# Altium schematic symbol library Integrated Circuits.SchLib: 13 symbols
Pins are listed as number, name and electrical type; pins without a type are passive.

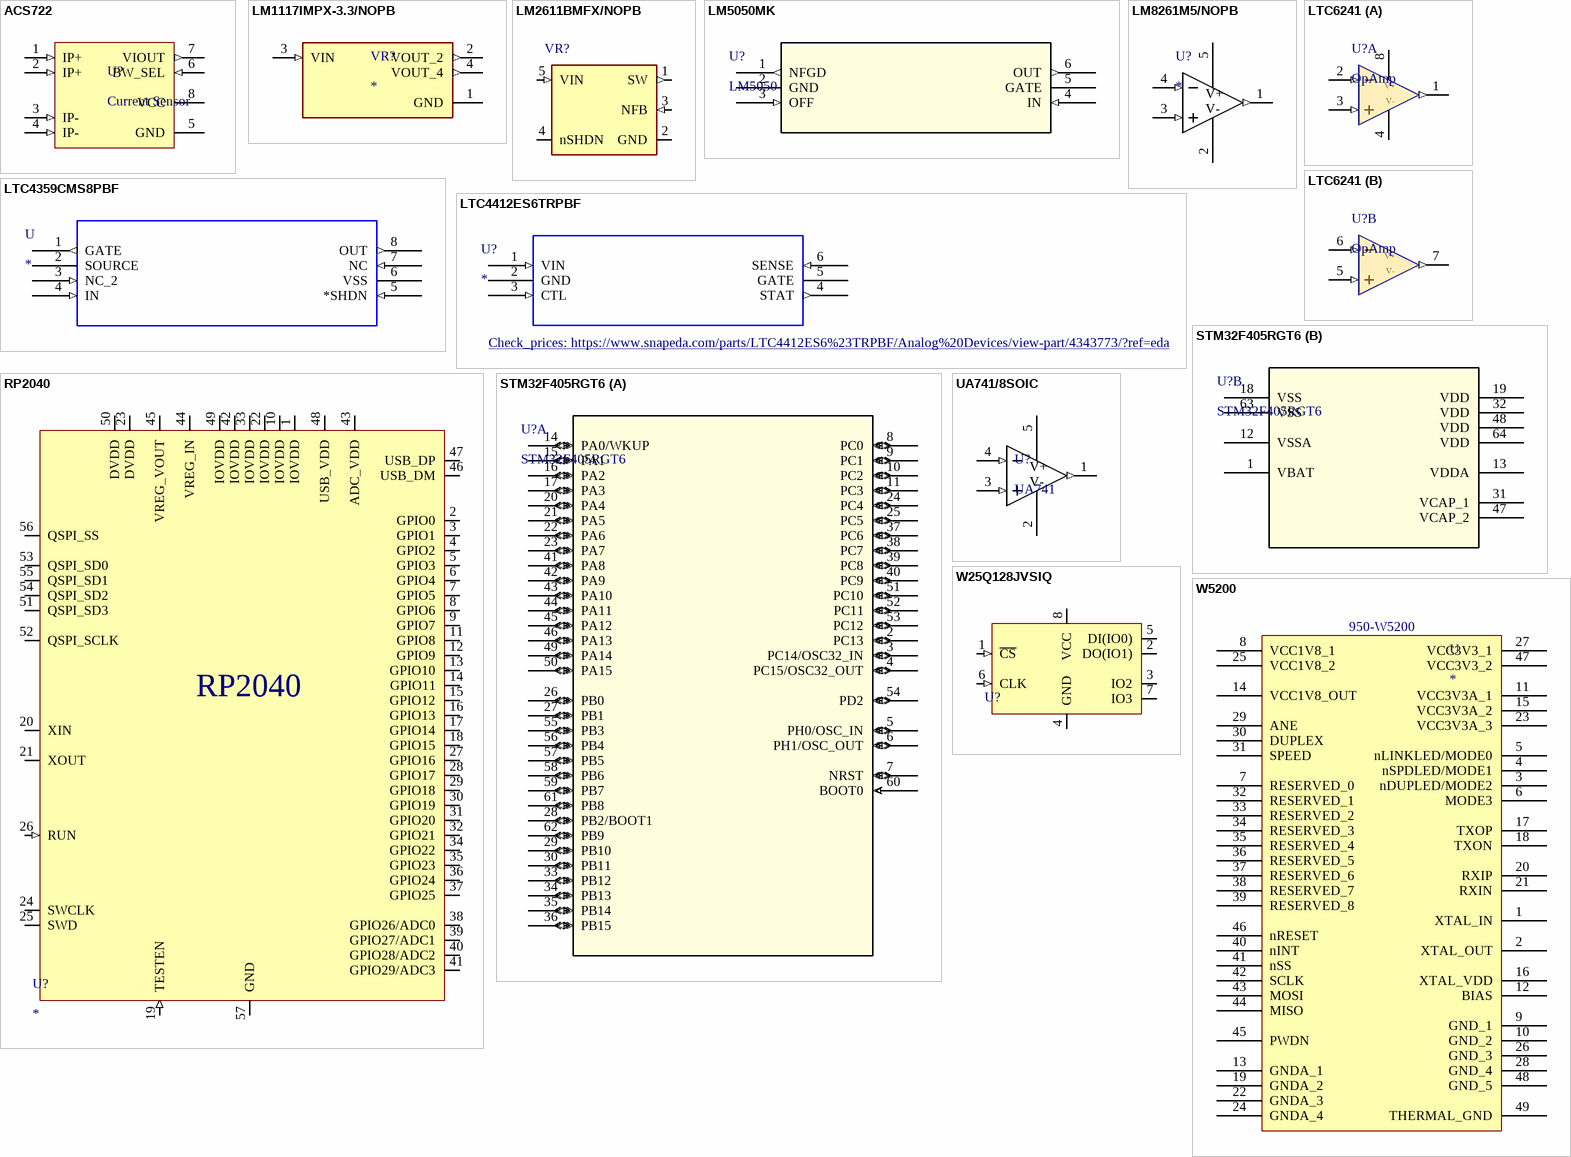
[diagram p0: symbols ACS722 to W5200]

## ACS722
designator U?, comment Current Sensor
ACS722 10A DC; Manufacturer: Allegro MicroSystems; Supply Voltage: 3 - 3.6 V; ComponentLink1Description: Datasheet; ComponentLink1URL: https://www.allegromicro.com/~/media/Files/Datasheets/ACS722-Datasheet.ashx; Current Rating: 10 A; Supplier Part Number 1: 620-1636-6-ND; Supplier 1: Digi-Key; Created By: Nathan A; PartNumber: ACS722
footprint S8 (Linear Technologies S8)
pins: 1 IP+ (in), 2 IP+ (in), 3 IP- (in), 4 IP- (in), 5 GND, 6 BW_SEL (in), 7 VIOUT (out), 8 VCC
1 alternate drawing of the same symbol

## LM1117IMPX-3.3/NOPB
designator VR?
800-mA 15-V linear voltage regulator 4-SOT-223 -40 to 125; MF: Texas Instruments; MP: LM1117IMPX-3.3/NOPB; Texas_Instruments-Purchase-URL: https://snapeda.com/shop?store=Texas+Instruments&id=410186; Price: None; Mouser-Purchase-URL: https://snapeda.com/shop?store=Mouser&id=410186; Value: *; Availability: Good; Package: SOT-223-4 Texas Instruments; Arrow_Electronics-Purchase-URL: https://snapeda.com/shop?store=Arrow+Electronics&id=410186; SnapEDA_Link: https://www.snapeda.com/parts/LM1117IMPX-3.3/NOPB/Texas%20Instruments/view-part/410186/?ref=snap; DigiKey-Purchase-URL: https://snapeda.com/shop?store=DigiKey&id=410186
footprint SOT-223-4
pins: 1 GND (power), 2 VOUT_2 (out), 3 VIN (in), 4 VOUT_4 (out)

## LM2611BMFX/NOPB
designator VR?, comment LM2611 -5V Regulator  (value not drawn)
900-mA -5Vswitching voltage regulator 1.4MHz SOT23-5; Made By: Flip B; Input Voltage: 2.7V-14V; Output Voltage: -1.23V - -22V; Output Current: 900mA; Varified By: *; Switching Frequency: 1.4MHz; Supplier 1: Digi-Key; Supplier Part Number 1: 296-35161-1-ND
footprint SOT-23-5
pins: 1 SW (out), 2 GND (power), 3 NFB (in) "Negative Feedback", 4 nSHDN "Active Low Shutdown Pin", 5 VIN (in)

## LM5050MK
designator U?, comment LM5050
OR Controller N+1 ORing Controller N-Channel N:1 SOT-23-THIN; Mfr_Name: Texas Instruments; Manufacturer_Part_Number: LM5050MK-2/NOPB; Copyright: Copyright (C) 2021 Ultra Librarian. All rights reserved.; Digi-Key_Part_Number_1: LM5050MK-2/NOPBCT-ND; Digi-Key_Part_Number_2: LM5050MK-2/NOPBDKR-ND; Digi-Key_Part_Number_3: LM5050MK-2/NOPBTR-ND; RefDes: RefDes; Type: DEV
footprint MK06A
pins: 1 NFGD (out), 2 GND (power), 3 OFF (in), 4 IN (in), 5 GATE, 6 OUT (out)

## LM8261M5/NOPB
designator U?
IC OPAMP GP 1 CIRCUIT SOT23-5; PartNumber: LM8261M5X/NOPB; Manufacturer: Texas Instruments; Supply Current: 1.3 mA; Supply Voltage: 2.5 V ~ 30 V, +/- 1.25 V ~ 15 V; Gain Bandwidth Product: 21 MHz; Created By: Dylan T; Supplier 1: Digi-Key; Supplier Part Number 1: LM8261M5/NOPBCT-ND
footprint DBV0005A_N
pins: 1 OUT (out), 2 V- (power), 3 IN+ (in), 4 IN- (in), 5 V+ (power)

## LTC4359CMS8PBF
designator U
IC OR CTRLR N+1 8MSOP,  IDEAL DIODE CONTROLLER; MF: Linear Technology; MP: LTC4359CMS8#PBF; Package: MSOP-8 Linear Technology; SnapEDA_Link: https://www.snapeda.com/parts/LTC4359CMS8%23PBF/Analog%20Devices/view-part/448959/?ref=snap; Mouser-Purchase-URL: https://snapeda.com/shop?store=Mouser&id=448959; DigiKey-Purchase-URL: https://snapeda.com/shop?store=DigiKey&id=448959; Price: None; Availability: Unavailable; Value: *
footprint MSOP-8_MS
pins: 1 GATE (out), 2 SOURCE, 3 NC_2 (in), 4 IN (in), 5 *SHDN (in), 6 VSS (power), 7 NC (in), 8 OUT (out)

## LTC4412ES6TRPBF
designator U?
OR Controller Source Selector Switch P-Channel 2:1 TSOT-23-6; MP: LTC4412ES6#TRPBF; MF: Analog Devices; Price: None; Availability: Good; Mouser-Purchase-URL: https://snapeda.com/shop?store=Mouser&id=4343773; Arrow_Europe-Purchase-URL: https://snapeda.com/shop?store=Arrow+Europe&id=4343773; DigiKey-Purchase-URL: https://snapeda.com/shop?store=DigiKey&id=4343773; Package: SOT-23-6 Analog Devices; SnapEDA_Link: https://www.snapeda.com/parts/LTC4412ES6%23TRPBF/Analog%20Devices/view-part/4343773/?ref=snap; Value: *; Check_prices: https://www.snapeda.com/parts/LTC4412ES6%23TRPBF/Analog%20Devices/view-part/4343773/?ref=eda
footprint TSOT-23_S6
pins: 1 VIN (in), 2 GND (power), 3 CTL (in), 4 STAT (out), 5 GATE, 6 SENSE (in)

## LTC6241
designator U?, comment OpAmp
LTC6241 Rail-to-Rail OpAmp Dual Circuit S8; PartNumber: LTC6241HVCS8; Manufacturer: Linear Technologies; Supply Current: 2.2mA per channel; Supply Voltage: 3V, 5V, +/-5V; Gain Bandwidth Product: 18 MHz; Slew Rate: 10V/uS; Created By: Flip B; ComponentLink1Description: Datasheet; ComponentLink1URL: https://www.analog.com/media/en/technical-documentation/data-sheets/624012fe.pdf; Supplier 1: Digi-Key; Supplier Part Number 1: LTC6241HVCS8#PBF-ND
footprint S8 (Linear Technologies S8)
part A pins: 1 OUT (out), 2 IN- (in), 3 IN+ (in), 4 V- (power), 8 V+ (power)
part B pins: 5 IN+ (in), 6 IN- (in), 7 OUT (out)
1 alternate drawing of the same symbol

## RP2040
designator U?
Raspberry Pi RP2040; Made By: Robert Pafford; Input Voltage: 3.3V; Crystal Frequency: 12 MHz; Number of GPIOs: 29; Available Busses: SPI, I2C, PWM, USB; ComponentLink1Description: DigiKey; ComponentLink1URL: *; ComponentLink2Description: Datasheet; ComponentLink2URL: https://datasheets.raspberrypi.org/rp2040/rp2040-datasheet.pdf
footprint QFN-56 RP2040 (QFN, 56-Leads, Body 7.00x7.00mm, Pitch 0.40mm, Thermal Pad 3.10x3.10mm, IPC Medium Density)
pins: 1 IOVDD (power), 2 GPIO0 (io) "GPIO2", 3 GPIO1 (io), 4 GPIO2 (io), 5 GPIO3 (io), 6 GPIO4 (io), 7 GPIO5 (io), 8 GPIO6 (io), 9 GPIO7 (io), 10 IOVDD (power), 11 GPIO8 (io), 12 GPIO9 (io), 13 GPIO10 (io), 14 GPIO11 (io), 15 GPIO12 (io), 16 GPIO13 (io), 17 GPIO14 (io), 18 GPIO15 (io), 19 TESTEN (in), 20 XIN, 21 XOUT, 22 IOVDD (power), 23 DVDD (power), 24 SWCLK (io), 25 SWD (io), 26 RUN (in), 27 GPIO16 (io), 28 GPIO17 (io), 29 GPIO18 (io), 30 GPIO19 (io), 31 GPIO20 (io), 32 GPIO21 (io), 33 IOVDD (power), 34 GPIO22 (io), 35 GPIO23 (io), 36 GPIO24 (io), 37 GPIO25 (io), 38 GPIO26/ADC0 (io), 39 GPIO27/ADC1 (io), 40 GPIO28/ADC2 (io), 41 GPIO29/ADC3 (io), 42 IOVDD (power), 43 ADC_VDD (power), 44 VREG_IN (power), 45 VREG_VOUT (power), 46 USB_DM (io), 47 USB_DP (io), 48 USB_VDD (power), 49 IOVDD (power), 50 DVDD (power), 51 QSPI_SD3 (io), 52 QSPI_SCLK (io), 53 QSPI_SD0 (io), 54 QSPI_SD2 (io), 55 QSPI_SD1 (io), 56 QSPI_SS (io), 57 GND (power)

## STM32F405RGT6
designator U?
No Description Available; Vendor: STMicroelectronics; Vcc/Vdd: 1.8V ~ 3.6V; Speed: 168MHz; Manufacturer_Part_Number: STM32F405RGT6; Package: 64-LQFP (10x10); Supplier 1: Digi-Key; Supplier Part Number 1: 497-11767-ND; Created By: Dylan T
footprint LQFP64-10x10mm
part A pins: 2 PC13 (io), 3 PC14/OSC32_IN (io), 4 PC15/OSC32_OUT (io), 5 PH0/OSC_IN (io), 6 PH1/OSC_OUT (io), 7 NRST (io), 8 PC0 (io), 9 PC1 (io), 10 PC2 (io), 11 PC3 (io), 14 PA0/WKUP (io), 15 PA1 (io), 16 PA2 (io), 17 PA3 (io), 20 PA4 (io), 21 PA5 (io), 22 PA6 (io), 23 PA7 (io), 24 PC4 (io), 25 PC5 (io), 26 PB0 (io), 27 PB1 (io), 28 PB2/BOOT1 (io), 29 PB10 (io), 30 PB11 (io), 33 PB12 (io), 34 PB13 (io), 35 PB14 (io), 36 PB15 (io), 37 PC6 (io), 38 PC7 (io), 39 PC8 (io), 40 PC9 (io), 41 PA8 (io), 42 PA9 (io), 43 PA10 (io), 44 PA11 (io), 45 PA12 (io), 46 PA13 (io), 49 PA14 (io), 50 PA15 (io), 51 PC10 (io), 52 PC11 (io), 53 PC12 (io), 54 PD2 (io), 55 PB3 (io), 56 PB4 (io), 57 PB5 (io), 58 PB6 (io), 59 PB7 (io), 60 BOOT0 (in), 61 PB8 (io), 62 PB9 (io)
part B pins: 1 VBAT (power), 12 VSSA (power), 13 VDDA (power), 18 VSS (power), 19 VDD (power), 31 VCAP_1 (power), 32 VDD (power), 47 VCAP_2 (power), 48 VDD (power), 63 VSS (power), 64 VDD (power)

## UA741/8SOIC
designator U?, comment UA741
IC OPAMP GP 1 CIRCUIT 8SOIC
footprint SOIC-8 W25QxJV (SOIC, 8-Leads, Body 5.28x5.28mm, Pitch 1.27mm, IPC Medium Density)
simulation model uA741 (Model Description)
pins: 1 OUT (out), 2 V- (power), 3 IN+ (in), 4 IN- (in), 5 V+ (power)

## W25Q128JVSIQ
designator U?  (value not drawn)
IC FLASH 128MBIT SPI/QUAD 8SOIC; Made By: Robert Pafford; Supplier 1: Digi-Key; Supplier Part Number 1: W25Q128JVSIQ-ND; Size: 128M
footprint SOIC-8 W25QxJV (SOIC, 8-Leads, Body 5.28x5.28mm, Pitch 1.27mm, IPC Medium Density)
pins: 1 ~{CS} (in), 2 DO(IO1) (io), 3 IO2 (io), 4 GND (power), 5 DI(IO0) (io), 6 CLK (in), 7 IO3 (io), 8 VCC (power)

## W5200
designator U  Supplier Part Number 1: 950-W5200
WIZNET W5200 / 48QFN (7x7 mm); MF: Texas Instruments; MP: LM1117IMPX-3.3/NOPB; Created by:: Siddharth.V; Texas_Instruments-Purchase-URL: https://snapeda.com/shop?store=Texas+Instruments&id=410186; Price: None; Mouser-Purchase-URL: https://snapeda.com/shop?store=Mouser&id=410186; Value: *; Availability: Good; Package: SOT-223-4 Texas Instruments; Arrow_Electronics-Purchase-URL: https://snapeda.com/shop?store=Arrow+Electronics&id=410186; SnapEDA_Link: https://www.snapeda.com/parts/LM1117IMPX-3.3/NOPB/Texas%20Instruments/view-part/410186/?ref=snap; DigiKey-Purchase-URL: https://snapeda.com/shop?store=DigiKey&id=410186; ComponentLink1Description: Datasheet; ComponentLink1URL: https://www.wiznet.io/product-item/w5200/; Supplier 1: Mouser
footprint QFN-48 (48 pin QFN package, 7x7mm, 0.5mm pitch)
pins: 1 XTAL_IN, 2 XTAL_OUT, 3 nDUPLED/MODE2, 4 nSPDLED/MODE1, 5 nLINKLED/MODE0, 6 MODE3, 7 RESERVED_0, 8 VCC1V8_1, 9 GND_1, 10 GND_2, 11 VCC3V3A_1, 12 BIAS, 13 GNDA_1, 14 VCC1V8_OUT, 15 VCC3V3A_2, 16 XTAL_VDD, 17 TXOP, 18 TXON, 19 GNDA_2, 20 RXIP, 21 RXIN, 22 GNDA_3, 23 VCC3V3A_3, 24 GNDA_4, 25 VCC1V8_2, 26 GND_3, 27 VCC3V3_1, 28 GND_4, 29 ANE, 30 DUPLEX, 31 SPEED, 32 RESERVED_1, 33 RESERVED_2, 34 RESERVED_3, 35 RESERVED_4, 36 RESERVED_5, 37 RESERVED_6, 38 RESERVED_7, 39 RESERVED_8, 40 nINT, 41 nSS, 42 SCLK, 43 MOSI, 44 MISO, 45 PWDN, 46 nRESET, 47 VCC3V3_2, 48 GND_5, 49 THERMAL_GND